# EAGLE library part ST7735STEMU (library ST7735wosd)
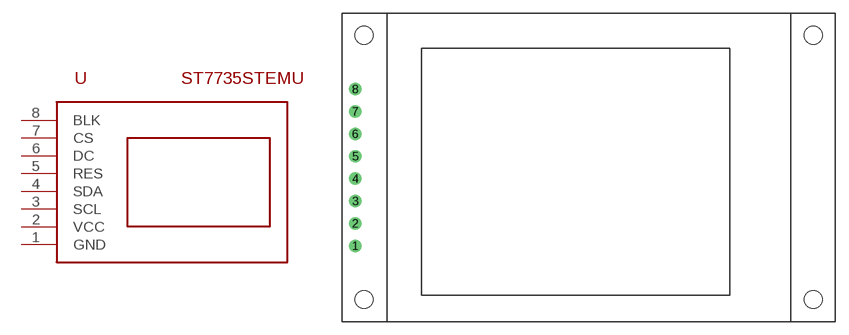
[diagram p0: symbol with the pads of ST7735S_NOSD; footprint ST7735S_NOSD]

Designator prefix -

## ST7735STEMU  [ST7735S_NOSD]
1  GND
2  VCC
3  SCL
4  SDA
5  RES
6  DC
7  CS
8  BLK

## Footprint ST7735S_NOSD (pad centres in mm)
drill 0.9: 1 1.5,8.61; 2 1.5,11.15; 3 1.5,13.69; 4 1.5,16.23; 5 1.5,18.77; 6 1.5,21.31; 7 1.5,23.85; 8 1.5,26.39
hole 2 at 2.5,2.5
hole 2 at 2.5,32.5
hole 2 at 53.5,32.5
hole 2 at 53.5,2.5